# Altium schematic symbol library FT245RL.SchLib: 1 symbol
Pins are listed as number, name and electrical type; pins without a type are passive.

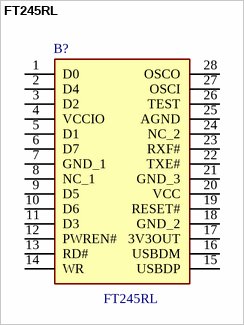
[diagram p0: symbol FT245RL]

## FT245RL
designator B?
FT245RL, Universal Asynchronous Receiver & Transmitter 1Mbit/s, 28-Pin, SSOP; Manufacturer_Name: FTDI Chip; Geometry.Height: 2mm; Manufacturer_Part_Number: FT245RL; Mouser Part Number: *; Mouser Price/Stock: *; Arrow Part Number: *; Arrow Price/Stock: *; Datasheet Link: http://www.ftdichip.com/Support/Documents/DataSheets/ICs/DS_FT245R.pdf
footprint SOP65P778X200-28N
pins: 1 D0, 2 D4, 3 D2, 4 VCCIO, 5 D1, 6 D7, 7 GND_1, 8 NC_1, 9 D5, 10 D6, 11 D3, 12 PWREN#, 13 RD#, 14 WR, 15 USBDP, 16 USBDM, 17 3V3OUT, 18 GND_2, 19 RESET#, 20 VCC, 21 GND_3, 22 TXE#, 23 RXF#, 24 NC_2, 25 AGND, 26 TEST, 27 OSCI, 28 OSCO